# EAGLE library part LM2907N (library jaapie)
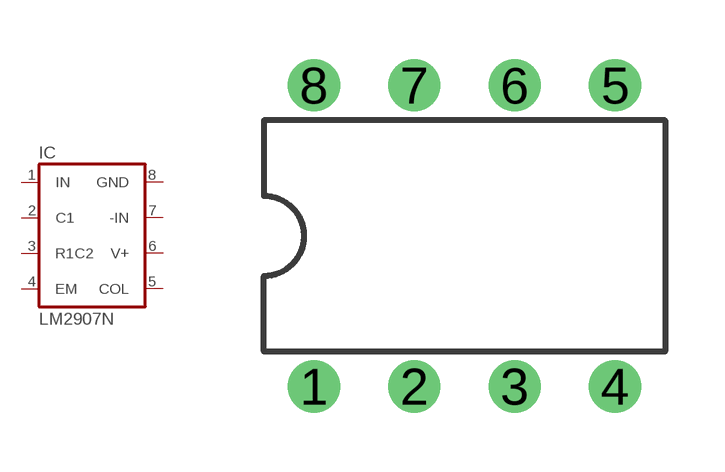
[diagram p4: symbol with the pads of DIL08; footprint DIL08]

Designator prefix IC

## LM2907N  [DIL08]
1  IN  in
2  C1
3  R1C2
4  EM
5  COL  oc
6  V+  pwr
7  -IN  in
8  GND  pwr

## Footprint DIL08 (pad centres in mm)
Dual In Line Package
drill 0.813 pad 1.27: 1 -3.81,-3.81; 2 -1.27,-3.81; 3 1.27,-3.81; 4 3.81,-3.81; 5 3.81,3.81; 6 1.27,3.81; 7 -1.27,3.81; 8 -3.81,3.81